# Altium footprint library 0702461201.PcbLib: 1 footprints
Each footprint in its own frame and in the unit in brackets; x right, y up, seen from the top. Pads: shape width x height; smd on the part's side, far side on the other; paste and mask are expansions set on the pad; w line width, h text height; cw(c..) or ccw(c..) is an arc to the next point about the centre after c.
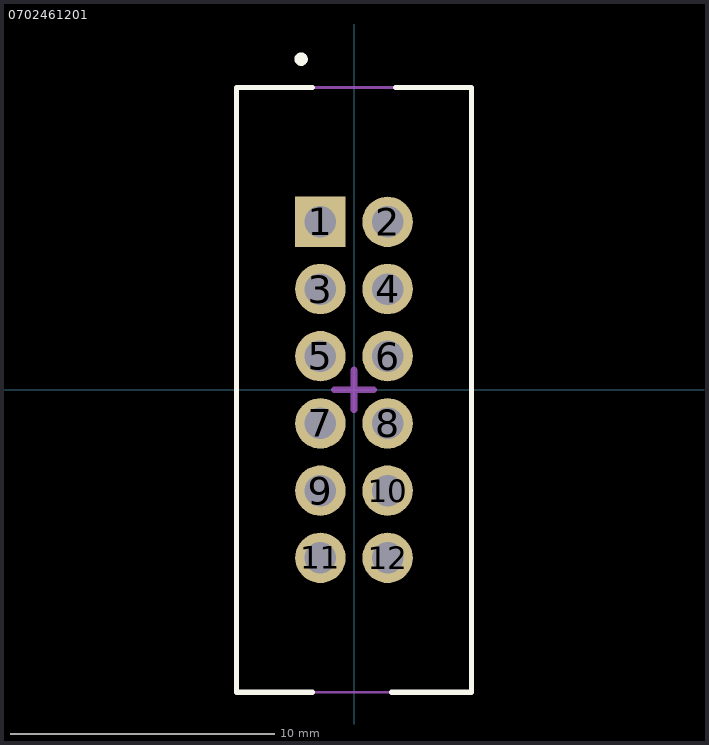
[diagram p0: the footprint, top view; thin cyan lines are the x and y axes]

## 0702461201 [mm]
pads (12):
  rect 1.905x1.905 hole 1.19 mask+0.051: 1(-1.27,6.35)
  round 1.905 hole 1.19 mask+0.051: 2(1.27,6.35) 3(-1.27,3.81) 4(1.27,3.81) 5(-1.27,1.27) 6(1.27,1.27) 7(-1.27,-1.27) 8(1.27,-1.27) 9(-1.27,-3.81) 10(1.27,-3.81) 11(-1.27,-6.35) 12(1.27,-6.35)
Top Overlay:
  circle w0.254: c-2,12.5 r0.126
  lines w0.2: -1.57,-11.43 -4.445,-11.43 -4.445,11.43 -1.57,11.43 ; 1.43,-11.43 4.445,-11.43 4.445,11.43 1.57,11.43
Mechanical 13:
  lines w0.1: -4.445,-11.43 4.445,-11.43 4.445,11.43 -4.445,11.43 -4.445,-11.43
Mechanical 15:
  lines w0.254: -0.75,0 0,0 ; 0,-0.75 0,0 ; 0,0.75 0,0 ; 0.75,0 0,0
3D body "0702461201.stp": height 9.28, standoff -3.42, extent -4.445,-11.43 4.445,11.43